# Altium footprint library PcbLib.PcbLib: 5 footprints
Each footprint in its own frame and in the unit in brackets; x right, y up, seen from the top. Pads: shape width x height; smd on the part's side, far side on the other; paste and mask are expansions set on the pad; w line width, h text height; cw(c..) or ccw(c..) is an arc to the next point about the centre after c.
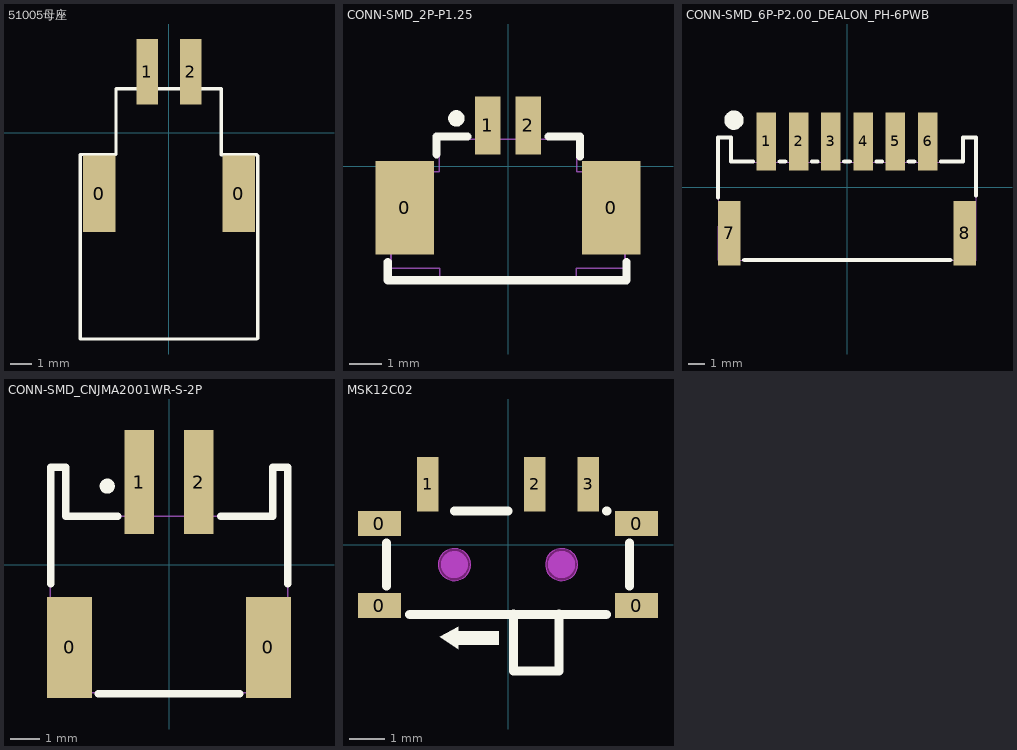
[diagram p0: the footprints below, top view; thin cyan lines are the x and y axes]

## 51005母座 [mm]
pads (4):
  rect 1.5x3.5 smd: 0(-3.2,-2.8) 0(3.2,-2.8)
  rect 1x3 smd: 1(-1,2.8) 2(1,2.8)
Top Overlay:
  lines w0.152: -2.44,-1 -4.07,-1 -4.07,-9.46 4.04,-9.46 ; -2.43,-0.99 -2.43,2.02 2.39,2.02 2.4,2.01 2.4,-1.01 4.03,-1.01 4.07,-1.05 4.07,-9.43

## CONN-SMD_2P-P1.25 [mil]
pads (4):
  rect 70.9x114.2 smd mask+1.97: 0(-126,-50.2) 0(126,-50.2)
  rect 31.5x70.9 smd mask+1.97: 1(-24.6,50.2) 2(24.6,50.2)
Top Overlay:
  circle w10: c-63,58.7 r5
  lines w10: -146.7,-116.4 -146.7,-138.8 144.7,-138.8 144.7,-116.4 ; -87.4,15 -87.4,36.6 -49.5,36.6 ; 49.5,36.6 87.8,36.6 87.8,12.2
Mechanical 15:
  region: 18.5,66.5 30.3,66.5 30.3,19.3 18.5,19.3
  region: -30.5,66.5 -18.7,66.5 -18.7,19.3 -30.5,19.3
  region: 95.7,-10.8 142.9,-10.8 142.9,-89.6 95.7,-89.6
  region: -142.9,-10.8 -95.7,-10.8 -95.7,-89.6 -142.9,-89.6
  lines w2: -142.9,-124.4 -142.9,-6.3 -83.9,-6.3 -83.9,33.1 83.9,33.1 83.9,-6.3 142.9,-6.3 142.9,-124.4 83.5,-124.4 83.5,-140.2 -83.9,-140.6 -83.5,-140.2 -83.5,-124.4 -142.9,-124.4

## CONN-SMD_6P-P2.00_DEALON_PH-6PWB [mm]
pads (8):
  rect 1.2x3.6 smd mask+0.05: 1(-5,2.85) 2(-3,2.85) 3(-1,2.85) 4(1,2.85) 5(3,2.85) 6(5,2.85)
  rect 1.4x4 smd mask+0.05: 7(-7.3,-2.85) 8(7.3,-2.85)
Top Overlay:
  circle w0.635: c-7.01,4.17 r0.283
  lines w0.254: -8,-0.619 -8,3.1 -7.2,3.1 -7.2,1.6 -5.831,1.6 ; -6.369,-4.5 6.4,-4.5 ; -4.169,1.6 -3.831,1.6 ; -2.169,1.6 -1.831,1.6 ; -0.169,1.6 0.169,1.6 ; 1.831,1.6 2.169,1.6 ; 3.831,1.6 4.169,1.6 ; 5.831,1.6 7.2,1.6 7.2,3.1 8,3.1 8,-0.5
Mechanical 15:
  region: 2.75,4.098 3.25,4.098 3.25,1.398 2.75,1.398
  region: 4.75,4.098 5.25,4.098 5.25,1.398 4.75,1.398
  region: 0.75,4.098 1.25,4.098 1.25,1.398 0.75,1.398
  region: -1.25,4.098 -0.75,4.098 -0.75,1.398 -1.25,1.398
  region: -3.25,4.098 -2.75,4.098 -2.75,1.398 -3.25,1.398
  region: -5.25,4.098 -4.75,4.098 -4.75,1.398 -5.25,1.398
  region: -7.475,-1.532 -7.125,-1.532 -7.125,-4.532 -7.475,-4.532
  region: 7.125,-1.532 7.475,-1.532 7.475,-4.532 7.125,-4.532
  lines w0.051: -8,3.075 -7.199,3.075 -7.199,1.572 7.2,1.572 7.2,3.076 7.999,3.076 7.999,-4.532 -7.997,-4.532 -7.997,-2.417 -8,3.075

## CONN-SMD_CNJMA2001WR-S-2P [mil]
pads (4):
  rect 59.1x133.9 smd mask+1.97: 0(-131.9,-109.5) 0(131.9,-109.5)
  rect 39.4x137.8 smd mask+1.97: 1(-39.4,109.5) 2(39.4,109.5)
Top Overlay:
  circle w10: c-81.9,104.2 r5
  lines w10: -156.9,-25.1 -156.9,129.2 -136.9,129.2 -136.9,64.2 -68.2,64.2 ; -93.7,-170.8 93.7,-170.8 ; 68.7,64 137.5,64 137.5,129 157.5,129 157.5,-25.3
Mechanical 15:
  region: -49.2,169.3 -29.5,169.3 -29.5,51.2 -49.2,51.2
  region: 29.5,169.3 49.2,169.3 49.2,51.2 29.5,51.2
  region: -139.8,-90.9 -124,-90.9 -124,-169.6 -139.8,-169.6
  region: 124,-90.9 139.8,-90.9 139.8,-169.6 124,-169.6
  lines w2: -157.3,-169.6 157.5,-169.6 157.5,129.3 138.3,129.3 138.3,64.6 -136.5,64.6 -136.5,129.9 -157.1,129.9 -157.3,77.9 -157.3,-169.6

## MSK12C02 [mm]
pads (7):
  rect 1.2x0.7 smd mask+0.051: 0(-3.6,-1.7) 0(-3.6,0.6) 0(3.6,-1.7) 0(3.6,0.6)
  rect 0.6x1.524 smd mask+0.051: 1(-2.25,1.7) 2(0.75,1.7) 3(2.25,1.7)
Top Overlay:
  region: -1.905,-2.575 -1.397,-2.286 -1.397,-2.415 -0.254,-2.415 -0.254,-2.794 -1.397,-2.794 -1.397,-2.921
  lines w0.254: -3.4,-1.144 -3.4,0.056 ; -2.75,-1.95 2.75,-1.95 ; -1.5,0.95 0,0.95 ; 0.15,-1.93 0.15,-3.53 1.425,-3.53 1.425,-1.93 ; 2.759,0.95 2.769,0.95 ; 3.4,-1.144 3.4,0.056
Keep-Out Layer:
  board cut-out: 1.95,-0.55 1.95,-0.461 1.882,-0.295 1.755,-0.169 1.59,-0.1 1.411,-0.1 1.245,-0.169 1.119,-0.295 1.05,-0.461 1.05,-0.55 1.05,-0.64 1.119,-0.805 1.245,-0.932 1.411,-1 1.59,-1 1.755,-0.932 1.882,-0.805 1.95,-0.64
  board cut-out: -1.05,-0.55 -1.05,-0.461 -1.118,-0.295 -1.245,-0.169 -1.41,-0.1 -1.589,-0.1 -1.755,-0.169 -1.881,-0.295 -1.95,-0.461 -1.95,-0.55 -1.95,-0.64 -1.881,-0.805 -1.755,-0.932 -1.589,-1 -1.41,-1 -1.245,-0.932 -1.118,-0.805 -1.05,-0.64
Mechanical 1:
  circle w0.005: c1.5,-0.55 r0.45
  circle w0.005: c-1.5,-0.55 r0.45
Mechanical 6:
  circle w0.38: c1.5,-0.55 r0.19
  circle w0.38: c-1.5,-0.55 r0.19